# Altium footprint library AO3400A.PcbLib: 3 footprints
Each footprint in its own frame and in the unit in brackets; x right, y up, seen from the top. Pads: shape width x height; smd on the part's side, far side on the other; paste and mask are expansions set on the pad; w line width, h text height; cw(c..) or ccw(c..) is an arc to the next point about the centre after c.
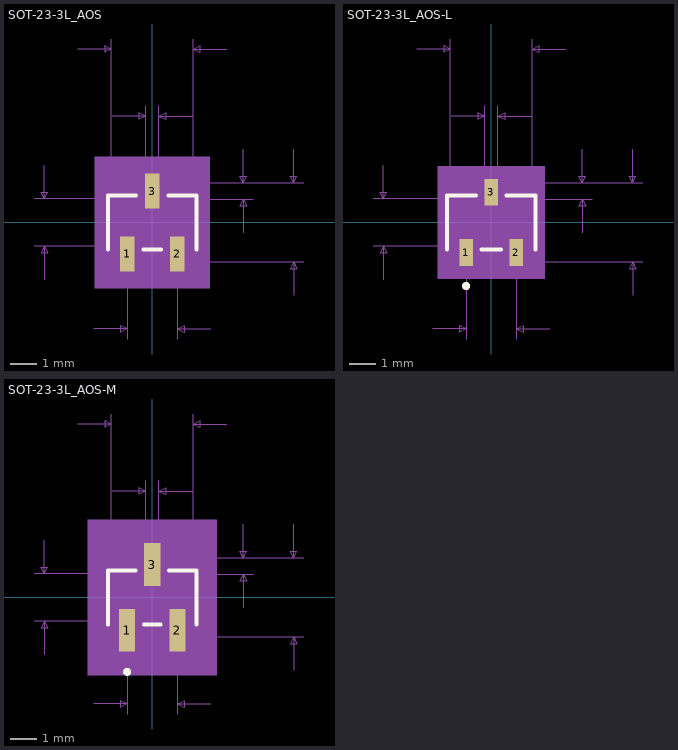
[diagram p0: the footprints below, top view; thin cyan lines are the x and y axes]

## SOT-23-3L_AOS [mil]
pads (3):
  rect 22x52 smd paste+0 mask+0: 1(-37.5,-47) 2(37.5,-47) 3(0,47)
Top Overlay:
  lines w6: -66,-40.5 -66,40.5 -24.1,40.5 ; -13.4,-40.5 13.4,-40.5 ; 24.1,40.5 66,40.5 66,-40.5
Mechanical 5:
  region: -86,98 86,98 86,-98 -86,-98
Mechanical 7:
  lines w1: -176,-35.5 0,-35.5 ; -176,35.5 0,35.5 ; -161,-85.5 -161,-35.5 ; -161,85.5 -161,35.5 ; -111,259 -61,259 ; -87.5,-159 -37.5,-159 ; -61,35.5 -61,274 ; -60,159 -10,159 ; -37.5,-174 -37.5,-59 ; -10,59 -10,174 ; 0,-59 226,-59 ; 0,35 151,35 ; 10,59 10,174 ; 37.5,-174 37.5,-59 ; 60,159 10,159 ; 61,35.5 61,274 ; 87.5,-159 37.5,-159 ; 111,259 61,259 ; 136,-15 136,35 ; 136,109 136,59 ; 151,59 0,59 226,59 ; 211,-109 211,-59 ; 211,109 211,59 ; -161,-35.5 -166,-45.5 -156,-45.5 -161,-35.5 ; -161,35.5 -166,45.5 -156,45.5 -161,35.5 ; -61,259 -71,264 -71,254 -61,259 ; -37.5,-159 -47.5,-154 -47.5,-164 -37.5,-159 ; -10,159 -20,164 -20,154 -10,159 ; 10,159 20,164 20,154 10,159 ; 37.5,-159 47.5,-154 47.5,-164 37.5,-159 ; 61,259 71,264 71,254 61,259 ; 136,35 131,25 141,25 136,35 ; 136,59 131,69 141,69 136,59 ; 211,-59 206,-69 216,-69 211,-59 ; 211,59 206,69 216,69 211,59
  text "Top Padstyle: EX22Y52D0T" at -300,-323 h50
  text "Bottom Padstyle: RX22Y52D0T" at -337.5,-398 h50
  text "Alt 1 Padstyle: OX60Y90D30P" at -337.5,-473 h50
  text "Alt 2 Padstyle: OX90Y60D30P" at -337.5,-548 h50
  text "0.118in/2.997mm" at 231,-12.5 h25
  text "0.024in/0.61mm" at 156,34.5 h25
  text "0.075in/1.905mm" at -93.75,-204 h25
  text "0.02in/0.508mm" at -87.5,179 h25
  text "0.122in/3.099mm" at -93.75,279 h25
  text "0.071in/1.803mm" at -368.5,-12.5 h25
Mechanical 13:
  circle w0: c-37.5,-25.5 r0
  lines w1: -61,-35.5 61,-35.5 61,35.5 -61,35.5 -61,-35.5 ; -47.5,-59 -47.5,-35.5 -27.5,-35.5 -27.5,-59 -47.5,-59 ; -10,35.5 10,35.5 10,59 -10,59 -10,35.5 ; 27.5,-59 27.5,-35.5 47.5,-35.5 47.5,-59 27.5,-59
Mechanical 15:
  region: -71,-45.5 -71,45.5 -20,45.5 -20,83 20,83 20,45.5 71,45.5 71,-45.5 57.5,-45.5 57.5,-83 -57.5,-83 -57.5,-45.5
  lines w6: -71,-45.5 -71,45.5 -20,45.5 -20,83 20,83 20,45.5 71,45.5 71,-45.5 57.5,-45.5 57.5,-83 -57.5,-83 -57.5,-45.5 -71,-45.5
3D body "SOT-23-3L_AOS.step": height 49.09, standoff 0, extent -60.98,-59.02 60.98,59.02

## SOT-23-3L_AOS-L [mil]
pads (3):
  rect 20x40 smd paste+0 mask+0: 1(-37.5,-45) 2(37.5,-45) 3(0,45)
Top Overlay:
  circle w6: c-37.5,-95 r3
  lines w6: -66,-40.5 -66,40.5 -23.1,40.5 ; -14.4,-40.5 14.4,-40.5 ; 23.1,40.5 66,40.5 66,-40.5
Mechanical 5:
  region: -80,84 80,84 80,-84 -80,-84
Mechanical 7:
  lines w1: -176,-35.5 0,-35.5 ; -176,35.5 0,35.5 ; -161,-85.5 -161,-35.5 ; -161,85.5 -161,35.5 ; -111,259 -61,259 ; -87.5,-159 -37.5,-159 ; -61,35.5 -61,274 ; -60,159 -10,159 ; -37.5,-174 -37.5,-59 ; -10,59 -10,174 ; 0,-59 226,-59 ; 0,35 151,35 ; 10,59 10,174 ; 37.5,-174 37.5,-59 ; 60,159 10,159 ; 61,35.5 61,274 ; 87.5,-159 37.5,-159 ; 111,259 61,259 ; 136,-15 136,35 ; 136,109 136,59 ; 151,59 0,59 226,59 ; 211,-109 211,-59 ; 211,109 211,59 ; -161,-35.5 -166,-45.5 -156,-45.5 -161,-35.5 ; -161,35.5 -166,45.5 -156,45.5 -161,35.5 ; -61,259 -71,264 -71,254 -61,259 ; -37.5,-159 -47.5,-154 -47.5,-164 -37.5,-159 ; -10,159 -20,164 -20,154 -10,159 ; 10,159 20,164 20,154 10,159 ; 37.5,-159 47.5,-154 47.5,-164 37.5,-159 ; 61,259 71,264 71,254 61,259 ; 136,35 131,25 141,25 136,35 ; 136,59 131,69 141,69 136,59 ; 211,-59 206,-69 216,-69 211,-59 ; 211,59 206,69 216,69 211,59
  text "Top Padstyle: EX20Y40D0T" at -300,-315 h50
  text "Bottom Padstyle: RX20Y40D0T" at -337.5,-390 h50
  text "Alt 1 Padstyle: OX60Y90D30P" at -337.5,-465 h50
  text "Alt 2 Padstyle: OX90Y60D30P" at -337.5,-540 h50
  text "0.118in/2.997mm" at 231,-12.5 h25
  text "0.024in/0.61mm" at 156,34.5 h25
  text "0.075in/1.905mm" at -93.75,-204 h25
  text "0.02in/0.508mm" at -87.5,179 h25
  text "0.122in/3.099mm" at -93.75,279 h25
  text "0.071in/1.803mm" at -368.5,-12.5 h25
Mechanical 13:
  circle w0: c-37.5,-25.5 r3
  lines w1: -61,-35.5 61,-35.5 61,35.5 -61,35.5 -61,-35.5 ; -47.5,-59 -47.5,-35.5 -27.5,-35.5 -27.5,-59 -47.5,-59 ; -10,35.5 10,35.5 10,59 -10,59 -10,35.5 ; 27.5,-59 27.5,-35.5 47.5,-35.5 47.5,-59 27.5,-59
Mechanical 15:
  region: -65,-39.5 -65,39.5 -14,39.5 -14,69 14,69 14,39.5 65,39.5 65,-39.5 51.5,-39.5 51.5,-69 -51.5,-69 -51.5,-39.5
  lines w6: -65,-39.5 -65,39.5 -14,39.5 -14,69 14,69 14,39.5 65,39.5 65,-39.5 51.5,-39.5 51.5,-69 -51.5,-69 -51.5,-39.5 -65,-39.5
3D body "SOT-23-3L_AOS.step": height 49.09, standoff 0, extent -60.98,-59.02 60.98,59.02

## SOT-23-3L_AOS-M [mil]
pads (3):
  rect 24x64 smd paste+0 mask+0: 1(-37.5,-49) 2(37.5,-49) 3(0,49)
Top Overlay:
  circle w6: c-37.5,-111 r3
  lines w6: -66,-40.5 -66,40.5 -25.1,40.5 ; -12.4,-40.5 12.4,-40.5 ; 25.1,40.5 66,40.5 66,-40.5
Mechanical 5:
  region: -96,116 96,116 96,-116 -96,-116
Mechanical 7:
  lines w1: -176,-35.5 0,-35.5 ; -176,35.5 0,35.5 ; -161,-85.5 -161,-35.5 ; -161,85.5 -161,35.5 ; -111,259 -61,259 ; -87.5,-159 -37.5,-159 ; -61,35.5 -61,274 ; -60,159 -10,159 ; -37.5,-174 -37.5,-59 ; -10,59 -10,174 ; 0,-59 226,-59 ; 0,35 151,35 ; 10,59 10,174 ; 37.5,-174 37.5,-59 ; 60,159 10,159 ; 61,35.5 61,274 ; 87.5,-159 37.5,-159 ; 111,259 61,259 ; 136,-15 136,35 ; 136,109 136,59 ; 151,59 0,59 226,59 ; 211,-109 211,-59 ; 211,109 211,59 ; -161,-35.5 -166,-45.5 -156,-45.5 -161,-35.5 ; -161,35.5 -166,45.5 -156,45.5 -161,35.5 ; -61,259 -71,264 -71,254 -61,259 ; -37.5,-159 -47.5,-154 -47.5,-164 -37.5,-159 ; -10,159 -20,164 -20,154 -10,159 ; 10,159 20,164 20,154 10,159 ; 37.5,-159 47.5,-154 47.5,-164 37.5,-159 ; 61,259 71,264 71,254 61,259 ; 136,35 131,25 141,25 136,35 ; 136,59 131,69 141,69 136,59 ; 211,-59 206,-69 216,-69 211,-59 ; 211,59 206,69 216,69 211,59
  text "Top Padstyle: EX24Y64D0T" at -300,-331 h50
  text "Bottom Padstyle: RX24Y64D0T" at -337.5,-406 h50
  text "Alt 1 Padstyle: OX60Y90D30P" at -337.5,-481 h50
  text "Alt 2 Padstyle: OX90Y60D30P" at -337.5,-556 h50
  text "0.118in/2.997mm" at 231,-12.5 h25
  text "0.024in/0.61mm" at 156,34.5 h25
  text "0.075in/1.905mm" at -93.75,-204 h25
  text "0.02in/0.508mm" at -87.5,179 h25
  text "0.122in/3.099mm" at -93.75,279 h25
  text "0.071in/1.803mm" at -368.5,-12.5 h25
Mechanical 13:
  circle w0: c-37.5,-25.5 r3
  lines w1: -61,-35.5 61,-35.5 61,35.5 -61,35.5 -61,-35.5 ; -47.5,-59 -47.5,-35.5 -27.5,-35.5 -27.5,-59 -47.5,-59 ; -10,35.5 10,35.5 10,59 -10,59 -10,35.5 ; 27.5,-59 27.5,-35.5 47.5,-35.5 47.5,-59 27.5,-59
Mechanical 15:
  region: -81,-55.5 -81,55.5 -30,55.5 -30,101 30,101 30,55.5 81,55.5 81,-55.5 67.5,-55.5 67.5,-101 -67.5,-101 -67.5,-55.5
  lines w6: -81,-55.5 -81,55.5 -30,55.5 -30,101 30,101 30,55.5 81,55.5 81,-55.5 67.5,-55.5 67.5,-101 -67.5,-101 -67.5,-55.5 -81,-55.5
3D body "SOT-23-3L_AOS.step": height 49.09, standoff 0, extent -60.98,-59.02 60.98,59.02